# Altium schematic symbol library SCH - POWER - SWITCHMODE - AD MAX42410.SCHLIB: 1 symbol
Pins are listed as number, name and electrical type; pins without a type are passive.

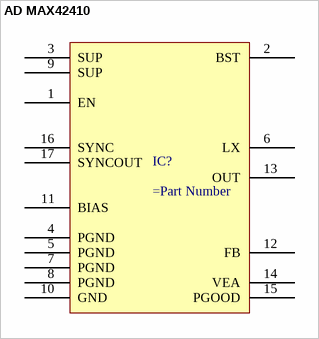
[diagram p0: symbol AD MAX42410]

## AD MAX42410
designator IC?
pins: 1 EN, 2 BST, 3 SUP, 4 PGND, 5 PGND, 6 LX, 7 PGND, 8 PGND, 9 SUP, 10 GND, 11 BIAS, 12 FB, 13 OUT, 14 VEA, 15 PGOOD, 16 SYNC, 17 SYNCOUT